# EAGLE library part DM132 (library led_matrix_master_lib)
16 channel led driver with 10bit pwm
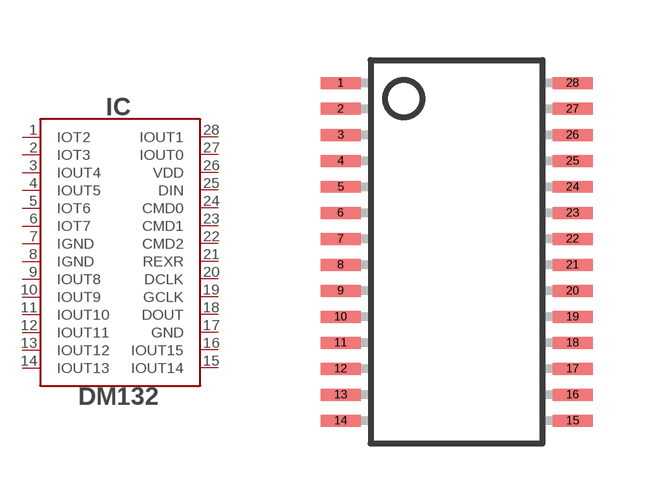
[diagram p3: symbol with the pads of TSSOP28; footprint TSSOP28]

Designator prefix IC

## DM132-TSSOP28 (LINK: http://www.chipdip.ru/product/dm132/)  [TSSOP28]
1  IOT2
2  IOT3
3  IOUT4
4  IOUT5
5  IOT6
6  IOT7
7  IGND
8  IGND
9  IOUT8
10  IOUT9
11  IOUT10
12  IOUT11
13  IOUT12
14  IOUT13
15  IOUT14
16  IOUT15
17  GND
18  DOUT
19  GCLK
20  DCLK
21  REXR
22  CMD2
23  CMD1
24  CMD0
25  DIN
26  VDD
27  IOUT0
28  IOUT1

## Footprint TSSOP28 (pad centres in mm)
Thin Shrink Small Outline Plastic 28 MAX3223-MAX3243.pdf
smd 1 x 0.3: 1 -2.9,4.225; 2 -2.9,3.575; 3 -2.9,2.925; 4 -2.9,2.275; 5 -2.9,1.625; 6 -2.9,0.975; 7 -2.9,0.325; 8 -2.9,-0.325; 9 -2.9,-0.975; 10 -2.9,-1.625; 11 -2.9,-2.275; 12 -2.9,-2.925; 13 -2.9,-3.575; 14 -2.9,-4.225; 15 2.9,-4.225; 16 2.9,-3.575; 17 2.9,-2.925; 18 2.9,-2.275; 19 2.9,-1.625; 20 2.9,-0.975; 21 2.9,-0.325; 22 2.9,0.325; 23 2.9,0.975; 24 2.9,1.625; 25 2.9,2.275; 26 2.9,2.925; 27 2.9,3.575; 28 2.9,4.225